# EAGLE library part TPS62933FDRLR (library TPS62933FDRLR)
Switching Voltage Regulators 3.8-V to 30-V input, 3-A, 200-kHz-2.2-MHz synchronous buck converter with SS in SOT-583 package Source: Datasheet
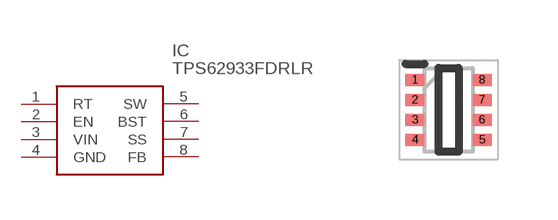
[diagram p0: symbol with the pads of SOTFL50P160X60-8N; footprint SOTFL50P160X60-8N]

Designator prefix IC

## TPS62933FDRLR (Description: Switching Voltage Regulators 3.8-V to 30-V input, 3-A, 200-kHz-2.2-MHz synchronous buck converter with SS in SOT-583 package; Height: 0.6mm; Manufacturer_Name: Texas Instruments; Manufacturer_Part_Number: TPS62933FDRLR; Mouser_Part_Number: 595-TPS62933FDRLR; Mouser_Price-Stock: https://www.mouser.co.uk/ProductDetail/Texas-Instruments/TPS62933FDRLR?qs=vvQtp7zwQdOB96lToDjrsA%3D%3D)  [SOTFL50P160X60-8N]
1  RT
2  EN
3  VIN
4  GND
5  SW
6  BST
7  SS
8  FB

## Footprint SOTFL50P160X60-8N (pad centres in mm)
DRL0008A
smd 0.475 x 0.3: 1 -0.838,0.75; 2 -0.838,0.25; 3 -0.838,-0.25; 4 -0.838,-0.75; 5 0.838,-0.75; 6 0.838,-0.25; 7 0.838,0.25; 8 0.838,0.75